# Altium schematic symbol library SCH - POWER - SWITCHMODE - TI TPS54226_PWP_14.SchLib: 1 symbol
Pins are listed as number, name and electrical type; pins without a type are passive.

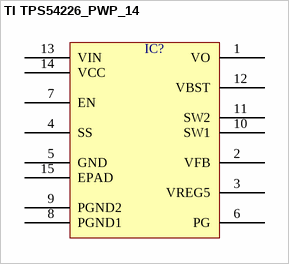
[diagram p0: symbol TI TPS54226_PWP_14]

## TI TPS54226_PWP_14
designator IC?  (value not drawn)
pins: 1 VO, 2 VFB, 3 VREG5, 4 SS, 5 GND, 6 PG, 7 EN, 8 PGND1, 9 PGND2, 10 SW1, 11 SW2, 12 VBST, 13 VIN, 14 VCC, 15 EPAD